# EAGLE library part HELA-10 (library opamps)
HELA-10B: RF amplifier (Mini-Circuits) 12dB gain
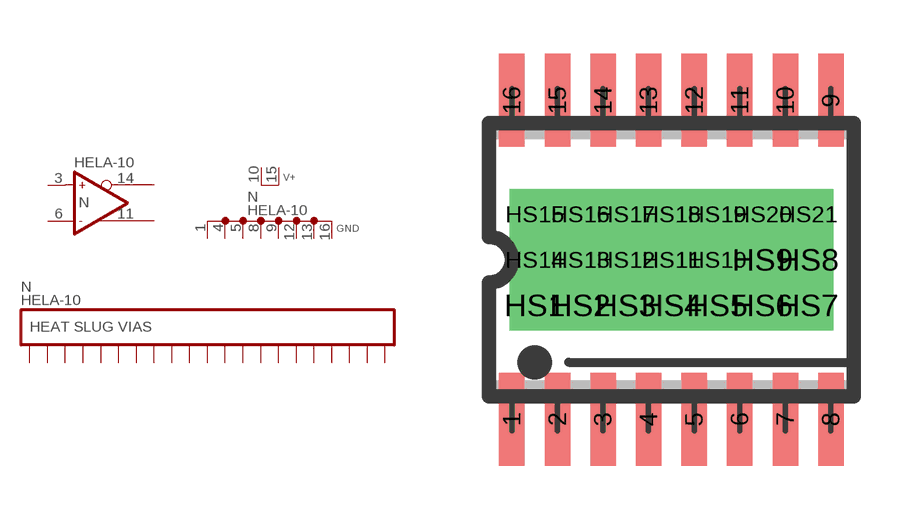
[diagram p227: symbol with the pads of CM624; footprint CM624]

Designator prefix N; gates A=OP_DIF1 P=V+-HELA10 G$1=HEAT21

## HELA-10  [CM624]
1  P:GND  pwr
3  A:IN+  in
4  P:GND  pwr
5  P:GND  pwr
6  A:IN-  in
8  P:GND  pwr
9  P:GND  pwr
10  P:V+  pwr
11  A:OUT+  out
12  P:GND  pwr
13  P:GND  pwr
14  A:OUT-
15  P:V+  pwr
16  P:GND  pwr
HS1  G$1:HS1
HS2  G$1:HS2
HS3  G$1:HS3
HS4  G$1:HS4
HS5  G$1:HS5
HS6  G$1:HS6
HS7  G$1:HS7
HS8  G$1:HS8
HS9  G$1:HS9
HS10  G$1:HS10
HS11  G$1:HS11
HS12  G$1:HS12
HS13  G$1:HS13
HS14  G$1:HS14
HS15  G$1:HS15
HS16  G$1:HS16
HS17  G$1:HS17
HS18  G$1:HS18
HS19  G$1:HS19
HS20  G$1:HS20
HS21  G$1:HS21

## HELA-10S  [CM624]
Pads as for CM624

## Footprint CM624 (pad centres in mm)
CM624: 16 pin SMD package (Mini-Circuits)
smd 0.711 x 2.591: 1 -4.445,-4.445; 2 -3.175,-4.445; 3 -1.905,-4.445; 4 -0.635,-4.445; 5 0.635,-4.445; 6 1.905,-4.445; 7 3.175,-4.445; 8 4.445,-4.445; 9 4.445,4.445; 10 3.175,4.445; 11 1.905,4.445; 12 0.635,4.445; 13 -0.635,4.445; 14 -1.905,4.445; 15 -3.175,4.445; 16 -4.445,4.445
drill 0.813 pad 1.397 square: HS1 -3.81,-1.27; HS2 -2.54,-1.27; HS3 -1.27,-1.27; HS4 0,-1.27; HS5 1.27,-1.27; HS6 2.54,-1.27; HS7 3.81,-1.27; HS8 3.81,0; HS9 2.54,0; HS10 1.27,0; HS11 0,0; HS12 -1.27,0; HS13 -2.54,0; HS14 -3.81,0; HS15 -3.81,1.27; HS16 -2.54,1.27; HS17 -1.27,1.27; HS18 0,1.27; HS19 1.27,1.27; HS20 2.54,1.27; HS21 3.81,1.27